# EAGLE library part MCP3004-I/SL (library digikey)
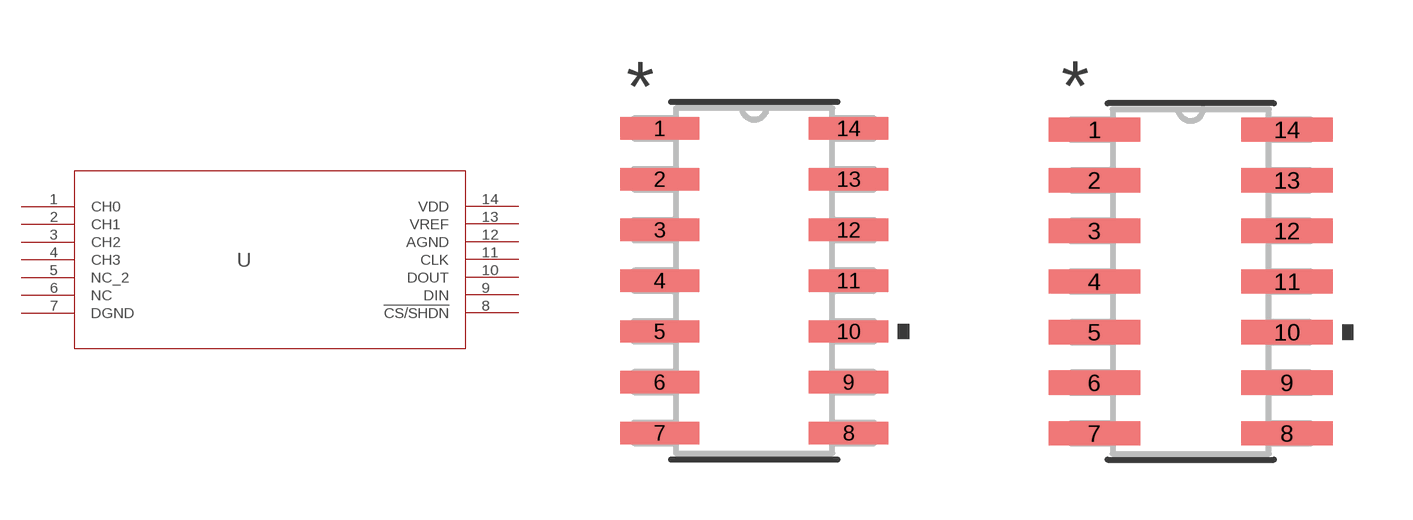
[diagram p0: symbol with the pads of SOIC14-N_MC; footprints SOIC14-N_MC, SOIC14-N_MC-M]

Designator prefix -

## MCP3004-I/SL (MANUFACTURER_PART_NUMBER: MCP3004ISL; VENDOR: Microchip)  [SOIC14-N_MC]
1  CH0  in
2  CH1  in
3  CH2  in
4  CH3  in
5  NC_2  nc
6  NC  nc
7  DGND  pas
8  !CS/SHDN  in
9  DIN  in
10  DOUT  out
11  CLK  in
12  AGND  pas
13  VREF  in
14  VDD  pas

## MCP3004-I/SLSOIC14-N_MC-M (MANUFACTURER_PART_NUMBER: MCP3004ISL; VENDOR: Microchip)  [SOIC14-N_MC-M]
Pads as for SOIC14-N_MC

## MCP3004-I/SLSOIC14-N_MC-L (MANUFACTURER_PART_NUMBER: MCP3004ISL; VENDOR: Microchip)  [SOIC14-N_MC-L]
Pads as for SOIC14-N_MC

## Footprint SOIC14-N_MC (pad centres in mm)
smd 1.981 x 0.559: 1 -2.362,3.81; 2 -2.362,2.54; 3 -2.362,1.27; 4 -2.362,0; 5 -2.362,-1.27; 6 -2.362,-2.54; 7 -2.362,-3.81; 8 2.362,-3.81; 9 2.362,-2.54; 10 2.362,-1.27; 11 2.362,0; 12 2.362,1.27; 13 2.362,2.54; 14 2.362,3.81

## Footprint SOIC14-N_MC-M (pad centres in mm)
smd 2.286 x 0.61: 1 -2.413,3.81; 2 -2.413,2.54; 3 -2.413,1.27; 4 -2.413,0; 5 -2.413,-1.27; 6 -2.413,-2.54; 7 -2.413,-3.81; 8 2.413,-3.81; 9 2.413,-2.54; 10 2.413,-1.27; 11 2.413,0; 12 2.413,1.27; 13 2.413,2.54; 14 2.413,3.81

## Footprint SOIC14-N_MC-L (pad centres in mm)
smd 1.676 x 0.508: 1 -2.311,3.81; 2 -2.311,2.54; 3 -2.311,1.27; 4 -2.311,0; 5 -2.311,-1.27; 6 -2.311,-2.54; 7 -2.311,-3.81; 8 2.311,-3.81; 9 2.311,-2.54; 10 2.311,-1.27; 11 2.311,0; 12 2.311,1.27; 13 2.311,2.54; 14 2.311,3.81